# EAGLE library part TTGO-T7 (library TTGO T7)
TTGO-T7 V1.4
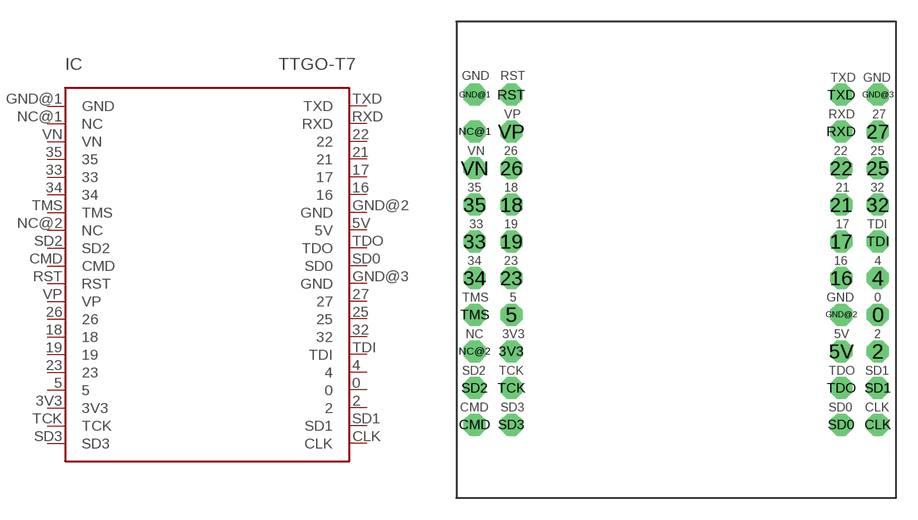
[diagram p0: symbol with the pads of TTGO-T7; footprint TTGO-T7]

Designator prefix IC

## TTGO-T7  [TTGO-T7]
0  0
2  2
3V3  3V3
4  4
5  5
5V  5V
16  16
17  17
18  18
19  19
21  21
22  22
23  23
25  25
26  26
27  27
32  32
33  33
34  34
35  35
CLK  CLK
CMD  CMD
GND@1  GND
GND@2  GND
GND@3  GND
NC@1  NC
NC@2  NC
RST  RST
RXD  RXD
SD0  SD0
SD1  SD1
SD2  SD2
SD3  SD3
TCK  TCK
TDI  TDI
TDO  TDO
TMS  TMS
TXD  TXD
VN  VN
VP  VP

## Footprint TTGO-T7 (pad centres in mm)
Liligo T7 v1.4 footprint
drill 1.016 pad 1.524 octagon: 0 27.94,7.62; 2 27.94,5.08; 3V3 2.54,5.08; 4 27.94,10.16; 5 2.54,7.62; 5V 25.4,5.08; 16 25.4,10.16; 17 25.4,12.7; 18 2.54,15.24; 19 2.54,12.7; 21 25.4,15.24; 22 25.4,17.78; 23 2.54,10.16; 25 27.94,17.78; 26 2.54,17.78; 27 27.94,20.32; 32 27.94,15.24; 33 0,12.7; 34 0,10.16; 35 0,15.24; CLK 27.94,0; CMD 0,0; GND@1 0,22.86; GND@2 25.4,7.62; GND@3 27.94,22.86; NC@1 0,20.32; NC@2 0,5.08; RST 2.54,22.86; RXD 25.4,20.32; SD0 25.4,0; SD1 27.94,2.54; SD2 0,2.54; SD3 2.54,0; TCK 2.54,2.54; TDI 27.94,12.7; TDO 25.4,2.54; TMS 0,7.62; TXD 25.4,22.86; VN 0,17.78; VP 2.54,20.32